# Altium integrated library TI_Logic_Specialty_Logic.IntLib: 2504 symbols (part 23 of 81)
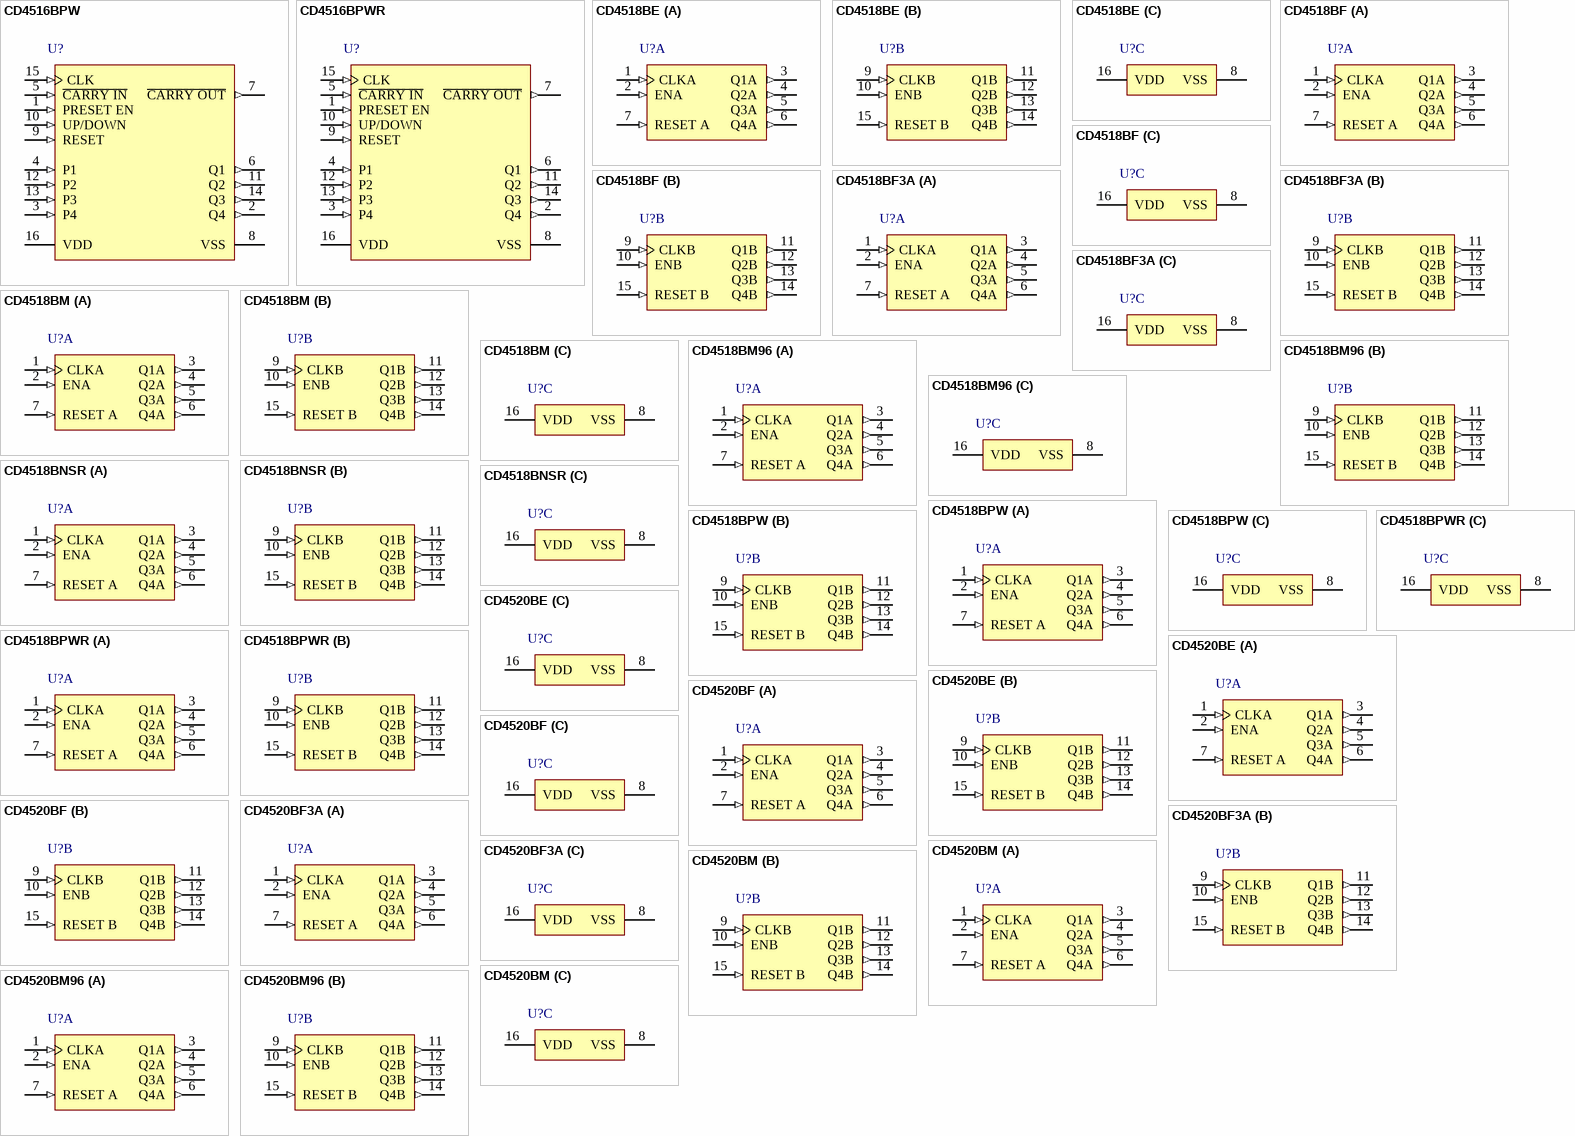
[diagram p126: symbols CD4516BPW to CD4520BM96]

## CD4518BM96
designator U?
CMOS Dual BCD Up-Counter, D0016A, LARGE T&R; Generic Part Number: CD4518B; Manufacturer: Texas Instruments; PartNumber: CD4518BM96; VCC(Max)(V): 18; VCC(Min)(V): 3; Inputs: 1; ICC @ Nom Voltage(Max)(mA): 0.03; Bits(#): 4; F @ Nom Voltage(Max)(Mhz): 8; Rating: Catalog; Technology Family: CD4000; Voltage(Nom)(V): 5,10,15; Schmitt Trigger: No; Output Drive (IOL/IOH)(Max)(mA): 1.5/-1.5; tpd @ Nom Voltage(Max)(ns): 230; DatasheetVersion: SCHS076D; PackageReference: D0016A; Supplier 1: Mouser; Supplier Part Number 1: 595-CD4518BM96; Supplier 2: Digi-Key; Supplier Part Number 2: 296-37330-2-ND; Supplier 3: Digi-Key; Supplier Part Number 3: 296-37330-1-ND; Supplier 4: Digi-Key; Supplier Part Number 4: 296-37330-6-ND; Output Type: CMOS; Function: Counter; Input Type: CMOS; Operating Temperature Range(C): -55 to 125; Type: Other; Code_JEDEC: MS-012 variation AC; ComponentLink1Description: Manufacturer URL; ComponentLink1URL: http://www.ti.com/; ComponentLink2Description: Datasheet; ComponentLink2URL: http://www.ti.com/lit/ds/symlink/cd4518b.pdf; ComponentLink3Description: Package Specification; ComponentLink3URL: http://www.ti.com/lit/ml/mpds178g/mpds178g.pdf
footprint D0016A_N (SOIC, 16-Leads, Body 10x4mm, Pitch 1.27mm, IPC Medium Density)
footprint D0016A_M (SOIC, 16-Leads, Body 10x4mm, Pitch 1.27mm, IPC Low Density)
footprint D0016A_L (SOIC, 16-Leads, Body 10x4mm, Pitch 1.27mm, IPC High Density)
part A pins: 1 CLKA (in), 2 ENA (in), 3 Q1A (out), 4 Q2A (out), 5 Q3A (out), 6 Q4A (out), 7 RESET A (in)
part B pins: 9 CLKB (in), 10 ENB (in), 11 Q1B (out), 12 Q2B (out), 13 Q3B (out), 14 Q4B (out), 15 RESET B (in)
part C pins: 8 VSS (power), 16 VDD (power)

## CD4518BNSR
designator U?
CMOS Dual BCD Up-Counter, NS0016A, LARGE T&R; Generic Part Number: CD4518B; Manufacturer: Texas Instruments; PartNumber: CD4518BNSR; VCC(Max)(V): 18; VCC(Min)(V): 3; Inputs: 1; ICC @ Nom Voltage(Max)(mA): 0.03; Bits(#): 4; F @ Nom Voltage(Max)(Mhz): 8; Rating: Catalog; Technology Family: CD4000; Voltage(Nom)(V): 5,10,15; Schmitt Trigger: No; Output Drive (IOL/IOH)(Max)(mA): 1.5/-1.5; tpd @ Nom Voltage(Max)(ns): 230; DatasheetVersion: SCHS076D; PackageReference: NS0016A; Supplier 1: Mouser; Supplier Part Number 1: 595-CD4518BNSR; Supplier 2: Digi-Key; Supplier Part Number 2: 296-14157-2-ND; Supplier 3: Digi-Key; Supplier Part Number 3: 296-14157-1-ND; Supplier 4: Digi-Key; Supplier Part Number 4: 296-14157-6-ND; Output Type: CMOS; Function: Counter; Input Type: CMOS; Operating Temperature Range(C): -55 to 125; Type: Other; ComponentLink1Description: Manufacturer URL; ComponentLink1URL: http://www.ti.com/; ComponentLink2Description: Datasheet; ComponentLink2URL: http://www.ti.com/lit/ds/symlink/cd4518b.pdf; ComponentLink3Description: Package Specification; ComponentLink3URL: http://www.ti.com/lit/ml/msop002a/msop002a.pdf
footprint NS0016A_N (SOIC,16-Leads,Body 10.5x5.6mm,Pitch 1.27mm,IPC Medium Density)
footprint NS0016A_M (SOIC,16-Leads,Body 10.5x5.6mm,Pitch 1.27mm,IPC Low Density)
footprint NS0016A_L (SOIC,16-Leads,Body 10.5x5.6mm,Pitch 1.27mm,IPC High Density)
part A pins: 1 CLKA (in), 2 ENA (in), 3 Q1A (out), 4 Q2A (out), 5 Q3A (out), 6 Q4A (out), 7 RESET A (in)
part B pins: 9 CLKB (in), 10 ENB (in), 11 Q1B (out), 12 Q2B (out), 13 Q3B (out), 14 Q4B (out), 15 RESET B (in)
part C pins: 8 VSS (power), 16 VDD (power)

## CD4518BPW
designator U?
CMOS Dual BCD Up-Counter, PW0016A, TUBE; Generic Part Number: CD4518B; Manufacturer: Texas Instruments; PartNumber: CD4518BPW; VCC(Max)(V): 18; VCC(Min)(V): 3; Inputs: 1; ICC @ Nom Voltage(Max)(mA): 0.03; Bits(#): 4; F @ Nom Voltage(Max)(Mhz): 8; Rating: Catalog; Technology Family: CD4000; Voltage(Nom)(V): 5,10,15; Schmitt Trigger: No; Output Drive (IOL/IOH)(Max)(mA): 1.5/-1.5; tpd @ Nom Voltage(Max)(ns): 230; DatasheetVersion: SCHS076D; PackageReference: PW0016A; Supplier 1: Mouser; Supplier Part Number 1: 595-CD4518BPW; Supplier 2: Digi-Key; Supplier Part Number 2: 296-32926-5-ND; Output Type: CMOS; Function: Counter; Input Type: CMOS; Operating Temperature Range(C): -55 to 125; Type: Other; Code_JEDEC: MO-153; ComponentLink1Description: Manufacturer URL; ComponentLink1URL: http://www.ti.com/; ComponentLink2Description: Datasheet; ComponentLink2URL: http://www.ti.com/lit/ds/symlink/cd4518b.pdf; ComponentLink3Description: Package Specification; ComponentLink3URL: http://www.ti.com/lit/ml/mpds361/mpds361.pdf
footprint PW0016A_N (SOP, 16-Leads, Body 5.1x4.5mm, Pitch 0.65mm, IPC Medium Density)
footprint PW0016A_M (SOP, 16-Leads, Body 5.1x4.5mm, Pitch 0.65mm, IPC Low Density)
footprint PW0016A_L (SOP, 16-Leads, Body 5.1x4.5mm, Pitch 0.65mm, IPC High Density)
part A pins: 1 CLKA (in), 2 ENA (in), 3 Q1A (out), 4 Q2A (out), 5 Q3A (out), 6 Q4A (out), 7 RESET A (in)
part B pins: 9 CLKB (in), 10 ENB (in), 11 Q1B (out), 12 Q2B (out), 13 Q3B (out), 14 Q4B (out), 15 RESET B (in)
part C pins: 8 VSS (power), 16 VDD (power)

## CD4518BPWR
designator U?
CMOS Dual BCD Up-Counter, PW0016A, LARGE T&R; Generic Part Number: CD4518B; Manufacturer: Texas Instruments; PartNumber: CD4518BPWR; VCC(Max)(V): 18; VCC(Min)(V): 3; Inputs: 1; ICC @ Nom Voltage(Max)(mA): 0.03; Bits(#): 4; F @ Nom Voltage(Max)(Mhz): 8; Rating: Catalog; Technology Family: CD4000; Voltage(Nom)(V): 5,10,15; Schmitt Trigger: No; Output Drive (IOL/IOH)(Max)(mA): 1.5/-1.5; tpd @ Nom Voltage(Max)(ns): 230; DatasheetVersion: SCHS076D; PackageReference: PW0016A; Supplier 1: Mouser; Supplier Part Number 1: 595-CD4518BPWR; Supplier 2: Digi-Key; Supplier Part Number 2: 296-28454-2-ND; Supplier 3: Digi-Key; Supplier Part Number 3: 296-28454-1-ND; Supplier 4: Digi-Key; Supplier Part Number 4: 296-28454-6-ND; Output Type: CMOS; Function: Counter; Input Type: CMOS; Operating Temperature Range(C): -55 to 125; Type: Other; Code_JEDEC: MO-153; ComponentLink1Description: Manufacturer URL; ComponentLink1URL: http://www.ti.com/; ComponentLink2Description: Datasheet; ComponentLink2URL: http://www.ti.com/lit/ds/symlink/cd4518b.pdf; ComponentLink3Description: Package Specification; ComponentLink3URL: http://www.ti.com/lit/ml/mpds361/mpds361.pdf
footprint PW0016A_N (SOP, 16-Leads, Body 5.1x4.5mm, Pitch 0.65mm, IPC Medium Density)
footprint PW0016A_M (SOP, 16-Leads, Body 5.1x4.5mm, Pitch 0.65mm, IPC Low Density)
footprint PW0016A_L (SOP, 16-Leads, Body 5.1x4.5mm, Pitch 0.65mm, IPC High Density)
part A pins: 1 CLKA (in), 2 ENA (in), 3 Q1A (out), 4 Q2A (out), 5 Q3A (out), 6 Q4A (out), 7 RESET A (in)
part B pins: 9 CLKB (in), 10 ENB (in), 11 Q1B (out), 12 Q2B (out), 13 Q3B (out), 14 Q4B (out), 15 RESET B (in)
part C pins: 8 VSS (power), 16 VDD (power)

## CD4520BE
designator U?
CMOS Dual Binary Up-Counter, N0016A, TUBE; Generic Part Number: CD4520B; Manufacturer: Texas Instruments; PartNumber: CD4520BE; VCC(Max)(V): 18; VCC(Min)(V): 3; Inputs: 1; ICC @ Nom Voltage(Max)(mA): 0.03; Bits(#): 4; F @ Nom Voltage(Max)(Mhz): 8; Rating: Catalog; Technology Family: CD4000; Voltage(Nom)(V): 5,10,15; Schmitt Trigger: No; Output Drive (IOL/IOH)(Max)(mA): 1.5/-1.5; tpd @ Nom Voltage(Max)(ns): 230; DatasheetVersion: SCHS076D; PackageReference: N0016A; Supplier 1: Mouser; Supplier Part Number 1: 595-CD4520BE; Supplier 2: Digi-Key; Supplier Part Number 2: 296-2077-5-ND; Output Type: CMOS; Function: Counter; Input Type: CMOS; Operating Temperature Range(C): -55 to 125; Type: Binary; Code_JEDEC: MS-001; ComponentLink1Description: Manufacturer URL; ComponentLink1URL: http://www.ti.com/; ComponentLink2Description: Datasheet; ComponentLink2URL: http://www.ti.com/lit/ds/symlink/cd4520b.pdf; ComponentLink3Description: Package Specification; ComponentLink3URL: http://www.ti.com/lit/ml/mpdi002c/mpdi002c.pdf
footprint N0016A (DIP, 16-Leads, Body 19.7x6.6mm, Pitch 2.54mm)
part A pins: 1 CLKA (in), 2 ENA (in), 3 Q1A (out), 4 Q2A (out), 5 Q3A (out), 6 Q4A (out), 7 RESET A (in)
part B pins: 9 CLKB (in), 10 ENB (in), 11 Q1B (out), 12 Q2B (out), 13 Q3B (out), 14 Q4B (out), 15 RESET B (in)
part C pins: 8 VSS (power), 16 VDD (power)

## CD4520BF
designator U?
CMOS Dual Binary Up-Counter, J0016A, TUBE; Generic Part Number: CD4520B-MIL; Manufacturer: Texas Instruments; PartNumber: CD4520BF; VCC(Max)(V): 18; VCC(Min)(V): 3; Inputs: 1; ICC @ Nom Voltage(Max)(mA): 0.03; Bits(#): 4; F @ Nom Voltage(Max)(Mhz): 8; Rating: Military; Technology Family: CD4000; Voltage(Nom)(V): 10; Schmitt Trigger: No; Output Drive (IOL/IOH)(Max)(mA): 1.5/-1.5; tpd @ Nom Voltage(Max)(ns): 230; DatasheetVersion: SCHS076D; PackageReference: J0016A; Output Type: CMOS; Function: Counter; Input Type: CMOS; Operating Temperature Range(C): -55 to 125; Type: Binary; ComponentLink1Description: Manufacturer URL; ComponentLink1URL: http://www.ti.com/; ComponentLink2Description: Datasheet; ComponentLink2URL: http://www.ti.com/lit/ds/symlink/cd4520b-mil.pdf; ComponentLink3Description: Package Specification; ComponentLink3URL: http://www.ti.com/lit/ml/mcer002d/mcer002d.pdf
footprint J0016A (DIP, 16-Leads, Body 21.35x7.2mm, Pitch 2.54mm)
part A pins: 1 CLKA (in), 2 ENA (in), 3 Q1A (out), 4 Q2A (out), 5 Q3A (out), 6 Q4A (out), 7 RESET A (in)
part B pins: 9 CLKB (in), 10 ENB (in), 11 Q1B (out), 12 Q2B (out), 13 Q3B (out), 14 Q4B (out), 15 RESET B (in)
part C pins: 8 VSS (power), 16 VDD (power)

## CD4520BF3A
designator U?
CMOS Dual Binary Up-Counter, J0016A, TUBE; Generic Part Number: CD4520B-MIL; Manufacturer: Texas Instruments; PartNumber: CD4520BF3A; VCC(Max)(V): 18; VCC(Min)(V): 3; Inputs: 1; ICC @ Nom Voltage(Max)(mA): 0.03; Bits(#): 4; F @ Nom Voltage(Max)(Mhz): 8; Rating: Military; Technology Family: CD4000; Voltage(Nom)(V): 10; Schmitt Trigger: No; Output Drive (IOL/IOH)(Max)(mA): 1.5/-1.5; tpd @ Nom Voltage(Max)(ns): 230; DatasheetVersion: SCHS076D; PackageReference: J0016A; Output Type: CMOS; Function: Counter; Input Type: CMOS; Operating Temperature Range(C): -55 to 125; Type: Binary; ComponentLink1Description: Manufacturer URL; ComponentLink1URL: http://www.ti.com/; ComponentLink2Description: Datasheet; ComponentLink2URL: http://www.ti.com/lit/ds/symlink/cd4520b-mil.pdf; ComponentLink3Description: Package Specification; ComponentLink3URL: http://www.ti.com/lit/ml/mcer002d/mcer002d.pdf
footprint J0016A (DIP, 16-Leads, Body 21.35x7.2mm, Pitch 2.54mm)
part A pins: 1 CLKA (in), 2 ENA (in), 3 Q1A (out), 4 Q2A (out), 5 Q3A (out), 6 Q4A (out), 7 RESET A (in)
part B pins: 9 CLKB (in), 10 ENB (in), 11 Q1B (out), 12 Q2B (out), 13 Q3B (out), 14 Q4B (out), 15 RESET B (in)
part C pins: 8 VSS (power), 16 VDD (power)

## CD4520BM
designator U?
CMOS Dual Binary Up-Counter, D0016A, TUBE; Generic Part Number: CD4520B; Manufacturer: Texas Instruments; PartNumber: CD4520BM; VCC(Max)(V): 18; VCC(Min)(V): 3; Inputs: 1; ICC @ Nom Voltage(Max)(mA): 0.03; Bits(#): 4; F @ Nom Voltage(Max)(Mhz): 8; Rating: Catalog; Technology Family: CD4000; Voltage(Nom)(V): 5,10,15; Schmitt Trigger: No; Output Drive (IOL/IOH)(Max)(mA): 1.5/-1.5; tpd @ Nom Voltage(Max)(ns): 230; DatasheetVersion: SCHS076D; PackageReference: D0016A; Supplier 1: Mouser; Supplier Part Number 1: 595-CD4520BM; Supplier 2: Digi-Key; Supplier Part Number 2: 296-32927-5-ND; Output Type: CMOS; Function: Counter; Input Type: CMOS; Operating Temperature Range(C): -55 to 125; Type: Binary; Code_JEDEC: MS-012 variation AC; ComponentLink1Description: Manufacturer URL; ComponentLink1URL: http://www.ti.com/; ComponentLink2Description: Datasheet; ComponentLink2URL: http://www.ti.com/lit/ds/symlink/cd4520b.pdf; ComponentLink3Description: Package Specification; ComponentLink3URL: http://www.ti.com/lit/ml/mpds178g/mpds178g.pdf
footprint D0016A_N (SOIC, 16-Leads, Body 10x4mm, Pitch 1.27mm, IPC Medium Density)
footprint D0016A_M (SOIC, 16-Leads, Body 10x4mm, Pitch 1.27mm, IPC Low Density)
footprint D0016A_L (SOIC, 16-Leads, Body 10x4mm, Pitch 1.27mm, IPC High Density)
part A pins: 1 CLKA (in), 2 ENA (in), 3 Q1A (out), 4 Q2A (out), 5 Q3A (out), 6 Q4A (out), 7 RESET A (in)
part B pins: 9 CLKB (in), 10 ENB (in), 11 Q1B (out), 12 Q2B (out), 13 Q3B (out), 14 Q4B (out), 15 RESET B (in)
part C pins: 8 VSS (power), 16 VDD (power)

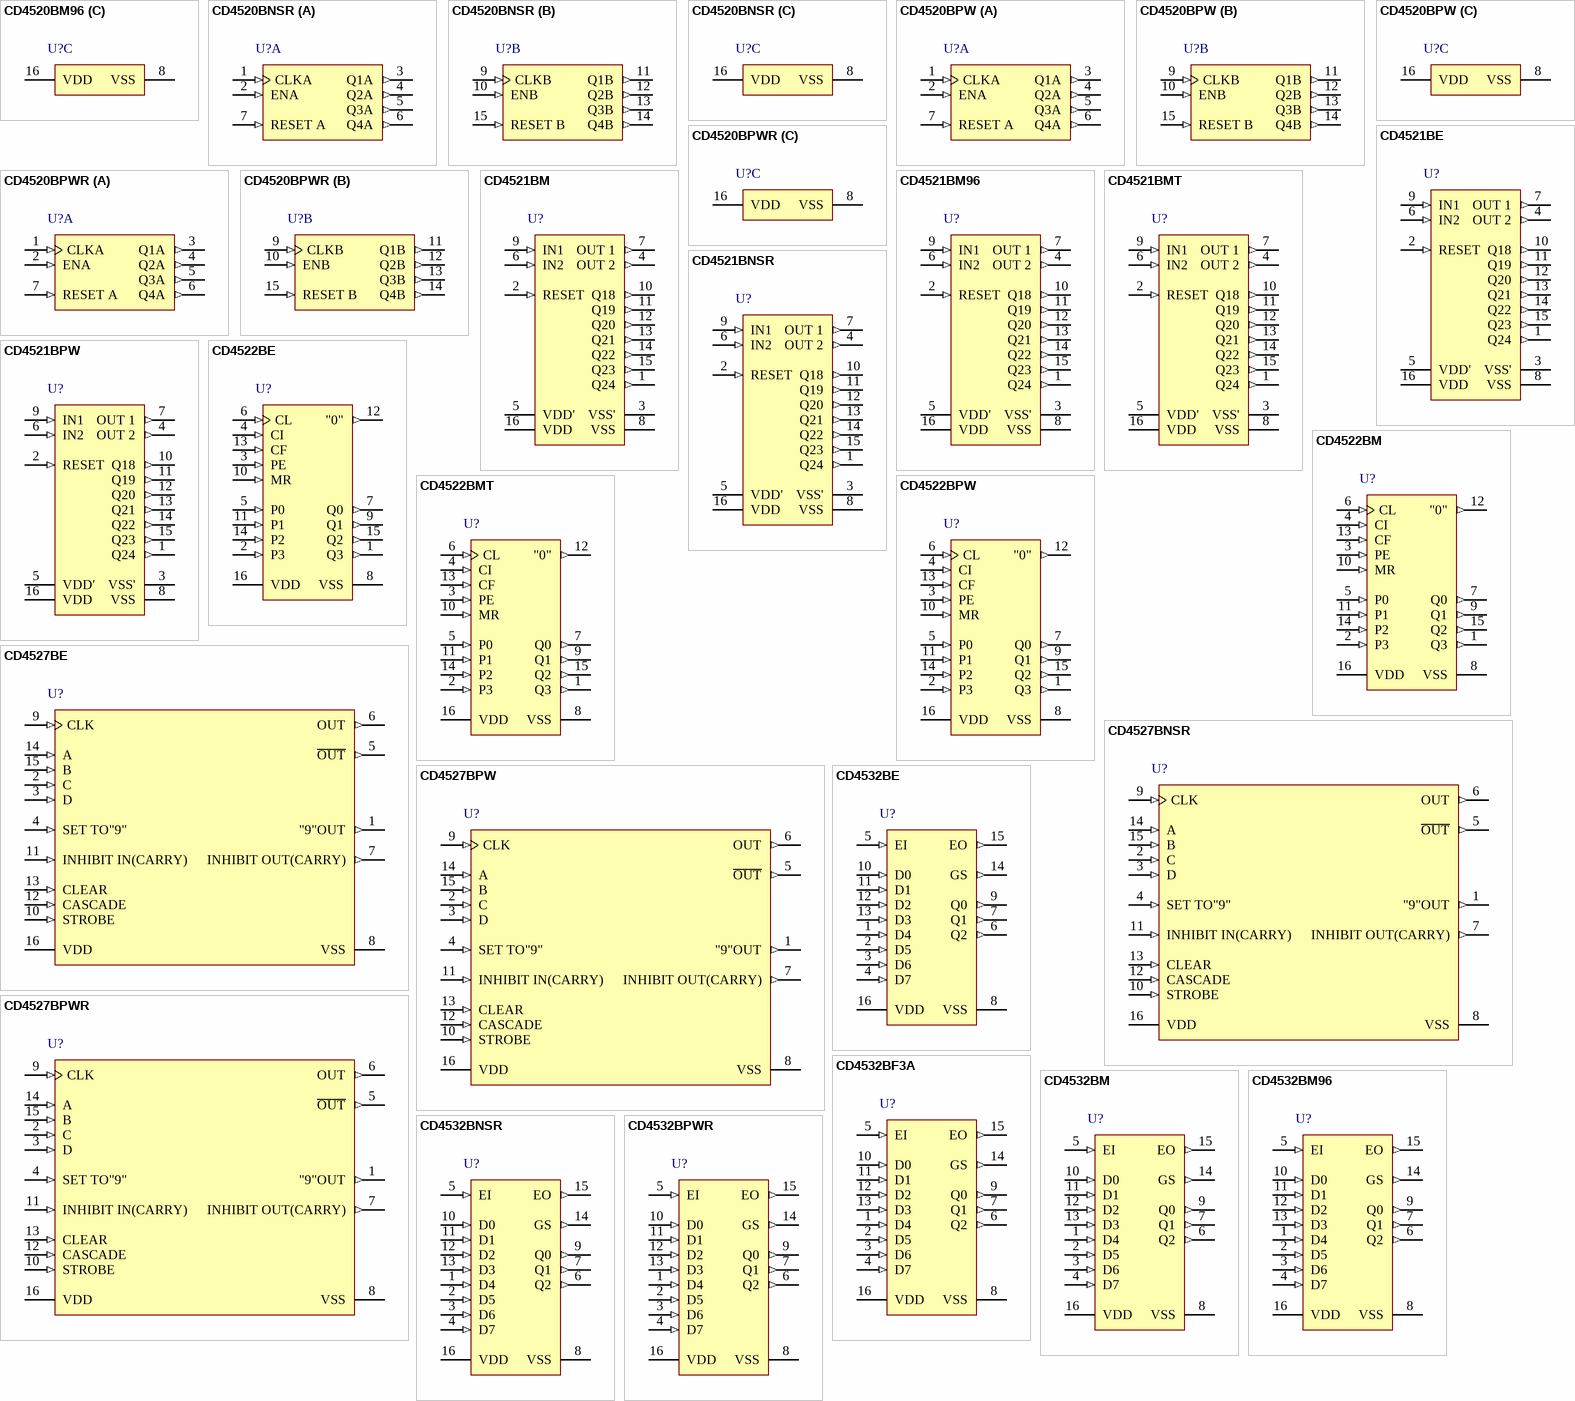
[diagram p30: symbols CD4520BM96 to CD4532BPWR]

## CD4520BM96
designator U?
CMOS Dual Binary Up-Counter, D0016A, LARGE T&R; Generic Part Number: CD4520B; Manufacturer: Texas Instruments; PartNumber: CD4520BM96; VCC(Max)(V): 18; VCC(Min)(V): 3; Inputs: 1; ICC @ Nom Voltage(Max)(mA): 0.03; Bits(#): 4; F @ Nom Voltage(Max)(Mhz): 8; Rating: Catalog; Technology Family: CD4000; Voltage(Nom)(V): 5,10,15; Schmitt Trigger: No; Output Drive (IOL/IOH)(Max)(mA): 1.5/-1.5; tpd @ Nom Voltage(Max)(ns): 230; DatasheetVersion: SCHS076D; PackageReference: D0016A; Supplier 1: Mouser; Supplier Part Number 1: 595-CD4520BM96; Supplier 2: Digi-Key; Supplier Part Number 2: 296-41222-2-ND; Supplier 3: Digi-Key; Supplier Part Number 3: 296-41222-1-ND; Supplier 4: Digi-Key; Supplier Part Number 4: 296-41222-6-ND; Output Type: CMOS; Function: Counter; Input Type: CMOS; Operating Temperature Range(C): -55 to 125; Type: Binary; Code_JEDEC: MS-012 variation AC; ComponentLink1Description: Manufacturer URL; ComponentLink1URL: http://www.ti.com/; ComponentLink2Description: Datasheet; ComponentLink2URL: http://www.ti.com/lit/ds/symlink/cd4520b.pdf; ComponentLink3Description: Package Specification; ComponentLink3URL: http://www.ti.com/lit/ml/mpds178g/mpds178g.pdf
footprint D0016A_N (SOIC, 16-Leads, Body 10x4mm, Pitch 1.27mm, IPC Medium Density)
footprint D0016A_M (SOIC, 16-Leads, Body 10x4mm, Pitch 1.27mm, IPC Low Density)
footprint D0016A_L (SOIC, 16-Leads, Body 10x4mm, Pitch 1.27mm, IPC High Density)
part A pins: 1 CLKA (in), 2 ENA (in), 3 Q1A (out), 4 Q2A (out), 5 Q3A (out), 6 Q4A (out), 7 RESET A (in)
part B pins: 9 CLKB (in), 10 ENB (in), 11 Q1B (out), 12 Q2B (out), 13 Q3B (out), 14 Q4B (out), 15 RESET B (in)
part C pins: 8 VSS (power), 16 VDD (power)

## CD4520BNSR
designator U?
CMOS Dual Binary Up-Counter, NS0016A, LARGE T&R; Generic Part Number: CD4520B; Manufacturer: Texas Instruments; PartNumber: CD4520BNSR; VCC(Max)(V): 18; VCC(Min)(V): 3; Inputs: 1; ICC @ Nom Voltage(Max)(mA): 0.03; Bits(#): 4; F @ Nom Voltage(Max)(Mhz): 8; Rating: Catalog; Technology Family: CD4000; Voltage(Nom)(V): 5,10,15; Schmitt Trigger: No; Output Drive (IOL/IOH)(Max)(mA): 1.5/-1.5; tpd @ Nom Voltage(Max)(ns): 230; DatasheetVersion: SCHS076D; PackageReference: NS0016A; Supplier 1: Mouser; Supplier Part Number 1: 595-CD4520BNSR; Supplier 2: Digi-Key; Supplier Part Number 2: 296-29113-2-ND; Supplier 3: Digi-Key; Supplier Part Number 3: 296-29113-1-ND; Supplier 4: Digi-Key; Supplier Part Number 4: 296-29113-6-ND; Output Type: CMOS; Function: Counter; Input Type: CMOS; Operating Temperature Range(C): -55 to 125; Type: Binary; ComponentLink1Description: Manufacturer URL; ComponentLink1URL: http://www.ti.com/; ComponentLink2Description: Datasheet; ComponentLink2URL: http://www.ti.com/lit/ds/symlink/cd4520b.pdf; ComponentLink3Description: Package Specification; ComponentLink3URL: http://www.ti.com/lit/ml/msop002a/msop002a.pdf
footprint NS0016A_N (SOIC,16-Leads,Body 10.5x5.6mm,Pitch 1.27mm,IPC Medium Density)
footprint NS0016A_M (SOIC,16-Leads,Body 10.5x5.6mm,Pitch 1.27mm,IPC Low Density)
footprint NS0016A_L (SOIC,16-Leads,Body 10.5x5.6mm,Pitch 1.27mm,IPC High Density)
part A pins: 1 CLKA (in), 2 ENA (in), 3 Q1A (out), 4 Q2A (out), 5 Q3A (out), 6 Q4A (out), 7 RESET A (in)
part B pins: 9 CLKB (in), 10 ENB (in), 11 Q1B (out), 12 Q2B (out), 13 Q3B (out), 14 Q4B (out), 15 RESET B (in)
part C pins: 8 VSS (power), 16 VDD (power)

## CD4520BPW
designator U?
CMOS Dual Binary Up-Counter, PW0016A, TUBE; Generic Part Number: CD4520B; Manufacturer: Texas Instruments; PartNumber: CD4520BPW; VCC(Max)(V): 18; VCC(Min)(V): 3; Inputs: 1; ICC @ Nom Voltage(Max)(mA): 0.03; Bits(#): 4; F @ Nom Voltage(Max)(Mhz): 8; Rating: Catalog; Technology Family: CD4000; Voltage(Nom)(V): 5,10,15; Schmitt Trigger: No; Output Drive (IOL/IOH)(Max)(mA): 1.5/-1.5; tpd @ Nom Voltage(Max)(ns): 230; DatasheetVersion: SCHS076D; PackageReference: PW0016A; Supplier 1: Mouser; Supplier Part Number 1: 595-CD4520BPW; Supplier 2: Digi-Key; Supplier Part Number 2: 296-32928-5-ND; Output Type: CMOS; Function: Counter; Input Type: CMOS; Operating Temperature Range(C): -55 to 125; Type: Binary; Code_JEDEC: MO-153; ComponentLink1Description: Manufacturer URL; ComponentLink1URL: http://www.ti.com/; ComponentLink2Description: Datasheet; ComponentLink2URL: http://www.ti.com/lit/ds/symlink/cd4520b.pdf; ComponentLink3Description: Package Specification; ComponentLink3URL: http://www.ti.com/lit/ml/mpds361/mpds361.pdf
footprint PW0016A_N (SOP, 16-Leads, Body 5.1x4.5mm, Pitch 0.65mm, IPC Medium Density)
footprint PW0016A_M (SOP, 16-Leads, Body 5.1x4.5mm, Pitch 0.65mm, IPC Low Density)
footprint PW0016A_L (SOP, 16-Leads, Body 5.1x4.5mm, Pitch 0.65mm, IPC High Density)
part A pins: 1 CLKA (in), 2 ENA (in), 3 Q1A (out), 4 Q2A (out), 5 Q3A (out), 6 Q4A (out), 7 RESET A (in)
part B pins: 9 CLKB (in), 10 ENB (in), 11 Q1B (out), 12 Q2B (out), 13 Q3B (out), 14 Q4B (out), 15 RESET B (in)
part C pins: 8 VSS (power), 16 VDD (power)

## CD4520BPWR
designator U?
CMOS Dual Binary Up-Counter, PW0016A, LARGE T&R; Generic Part Number: CD4520B; Manufacturer: Texas Instruments; PartNumber: CD4520BPWR; VCC(Max)(V): 18; VCC(Min)(V): 3; Inputs: 1; ICC @ Nom Voltage(Max)(mA): 0.03; Bits(#): 4; F @ Nom Voltage(Max)(Mhz): 8; Rating: Catalog; Technology Family: CD4000; Voltage(Nom)(V): 5,10,15; Schmitt Trigger: No; Output Drive (IOL/IOH)(Max)(mA): 1.5/-1.5; tpd @ Nom Voltage(Max)(ns): 230; DatasheetVersion: SCHS076D; PackageReference: PW0016A; Supplier 1: Mouser; Supplier Part Number 1: 595-CD4520BPWR; Supplier 2: Digi-Key; Supplier Part Number 2: 296-31532-2-ND; Supplier 3: Digi-Key; Supplier Part Number 3: 296-31532-1-ND; Supplier 4: Digi-Key; Supplier Part Number 4: 296-31532-6-ND; Output Type: CMOS; Function: Counter; Input Type: CMOS; Operating Temperature Range(C): -55 to 125; Type: Binary; Code_JEDEC: MO-153; ComponentLink1Description: Manufacturer URL; ComponentLink1URL: http://www.ti.com/; ComponentLink2Description: Datasheet; ComponentLink2URL: http://www.ti.com/lit/ds/symlink/cd4520b.pdf; ComponentLink3Description: Package Specification; ComponentLink3URL: http://www.ti.com/lit/ml/mpds361/mpds361.pdf
footprint PW0016A_N (SOP, 16-Leads, Body 5.1x4.5mm, Pitch 0.65mm, IPC Medium Density)
footprint PW0016A_M (SOP, 16-Leads, Body 5.1x4.5mm, Pitch 0.65mm, IPC Low Density)
footprint PW0016A_L (SOP, 16-Leads, Body 5.1x4.5mm, Pitch 0.65mm, IPC High Density)
part A pins: 1 CLKA (in), 2 ENA (in), 3 Q1A (out), 4 Q2A (out), 5 Q3A (out), 6 Q4A (out), 7 RESET A (in)
part B pins: 9 CLKB (in), 10 ENB (in), 11 Q1B (out), 12 Q2B (out), 13 Q3B (out), 14 Q4B (out), 15 RESET B (in)
part C pins: 8 VSS (power), 16 VDD (power)

## CD4521BE
designator U?
CMOS 24-Stage Frequency Divider, N0016A, TUBE; Generic Part Number: CD4521B; Manufacturer: Texas Instruments; PartNumber: CD4521BE; VCC(Max)(V): 18; VCC(Min)(V): 3; ICC @ Nom Voltage(Max)(mA): 0.3; Bits(#): 7; F @ Nom Voltage(Max)(Mhz): 8; Rating: Catalog; Technology Family: CD4000; Voltage(Nom)(V): 10; Schmitt Trigger: No; Output Drive (IOL/IOH)(Max)(mA): 4/-4; tpd @ Nom Voltage(Max)(ns): 4500; DatasheetVersion: SCHS078C; PackageReference: N0016A; Supplier 1: Mouser; Supplier Part Number 1: 595-CD4521BE; Supplier 2: Digi-Key; Supplier Part Number 2: 296-14158-5-ND; Output Type: CMOS; Input Type: CMOS; Operating Temperature Range(C): -55 to 125; ComponentLink1Description: Manufacturer URL; ComponentLink1URL: http://www.ti.com/; ComponentLink2Description: Datasheet; ComponentLink2URL: http://www.ti.com/lit/ds/symlink/cd4521b.pdf
footprint N0016A (DIP, 16-Leads, Body 19.7x6.6mm, Pitch 2.54mm)
pins: 1 Q24 (out), 2 RESET (in), 3 VSS' (power), 4 OUT 2 (out), 5 VDD' (power), 6 IN2 (in), 7 OUT 1 (out), 8 VSS (power), 9 IN1 (in), 10 Q18 (out), 11 Q19 (out), 12 Q20 (out), 13 Q21 (out), 14 Q22 (out), 15 Q23 (out), 16 VDD (power)

## CD4521BM
designator U?
CMOS 24-Stage Frequency Divider, D0016A, TUBE; Generic Part Number: CD4521B; Manufacturer: Texas Instruments; PartNumber: CD4521BM; VCC(Max)(V): 18; VCC(Min)(V): 3; ICC @ Nom Voltage(Max)(mA): 0.3; Bits(#): 7; F @ Nom Voltage(Max)(Mhz): 8; Rating: Catalog; Technology Family: CD4000; Voltage(Nom)(V): 10; Schmitt Trigger: No; Output Drive (IOL/IOH)(Max)(mA): 4/-4; tpd @ Nom Voltage(Max)(ns): 4500; DatasheetVersion: SCHS078C; PackageReference: D0016A; Supplier 1: Mouser; Supplier Part Number 1: 595-CD4521BM; Supplier 2: Digi-Key; Supplier Part Number 2: 296-32929-5-ND; Output Type: CMOS; Input Type: CMOS; Operating Temperature Range(C): -55 to 125; ComponentLink1Description: Manufacturer URL; ComponentLink1URL: http://www.ti.com/; ComponentLink2Description: Datasheet; ComponentLink2URL: http://www.ti.com/lit/ds/symlink/cd4521b.pdf
footprint D0016A_N (SOIC, 16-Leads, Body 10x4mm, Pitch 1.27mm, IPC Medium Density)
footprint D0016A_M (SOIC, 16-Leads, Body 10x4mm, Pitch 1.27mm, IPC Low Density)
footprint D0016A_L (SOIC, 16-Leads, Body 10x4mm, Pitch 1.27mm, IPC High Density)
pins: 1 Q24 (out), 2 RESET (in), 3 VSS' (power), 4 OUT 2 (out), 5 VDD' (power), 6 IN2 (in), 7 OUT 1 (out), 8 VSS (power), 9 IN1 (in), 10 Q18 (out), 11 Q19 (out), 12 Q20 (out), 13 Q21 (out), 14 Q22 (out), 15 Q23 (out), 16 VDD (power)

## CD4521BM96
designator U?
CMOS 24-Stage Frequency Divider, D0016A, LARGE T&R; Generic Part Number: CD4521B; Manufacturer: Texas Instruments; PartNumber: CD4521BM96; VCC(Max)(V): 18; VCC(Min)(V): 3; ICC @ Nom Voltage(Max)(mA): 0.3; Bits(#): 7; F @ Nom Voltage(Max)(Mhz): 8; Rating: Catalog; Technology Family: CD4000; Voltage(Nom)(V): 10; Schmitt Trigger: No; Output Drive (IOL/IOH)(Max)(mA): 4/-4; tpd @ Nom Voltage(Max)(ns): 4500; DatasheetVersion: SCHS078C; PackageReference: D0016A; Supplier 1: Mouser; Supplier Part Number 1: 595-CD4521BM96; Supplier 2: Digi-Key; Supplier Part Number 2: 296-31533-2-ND; Supplier 3: Digi-Key; Supplier Part Number 3: 296-31533-1-ND; Supplier 4: Digi-Key; Supplier Part Number 4: 296-31533-6-ND; Output Type: CMOS; Input Type: CMOS; Operating Temperature Range(C): -55 to 125; ComponentLink1Description: Manufacturer URL; ComponentLink1URL: http://www.ti.com/; ComponentLink2Description: Datasheet; ComponentLink2URL: http://www.ti.com/lit/ds/symlink/cd4521b.pdf
footprint D0016A_N (SOIC, 16-Leads, Body 10x4mm, Pitch 1.27mm, IPC Medium Density)
footprint D0016A_M (SOIC, 16-Leads, Body 10x4mm, Pitch 1.27mm, IPC Low Density)
footprint D0016A_L (SOIC, 16-Leads, Body 10x4mm, Pitch 1.27mm, IPC High Density)
pins: 1 Q24 (out), 2 RESET (in), 3 VSS' (power), 4 OUT 2 (out), 5 VDD' (power), 6 IN2 (in), 7 OUT 1 (out), 8 VSS (power), 9 IN1 (in), 10 Q18 (out), 11 Q19 (out), 12 Q20 (out), 13 Q21 (out), 14 Q22 (out), 15 Q23 (out), 16 VDD (power)

## CD4521BMT
designator U?
CMOS 24-Stage Frequency Divider, D0016A, SMALL T&R; Generic Part Number: CD4521B; Manufacturer: Texas Instruments; PartNumber: CD4521BMT; VCC(Max)(V): 18; VCC(Min)(V): 3; ICC @ Nom Voltage(Max)(mA): 0.3; Bits(#): 7; F @ Nom Voltage(Max)(Mhz): 8; Rating: Catalog; Technology Family: CD4000; Voltage(Nom)(V): 10; Schmitt Trigger: No; Output Drive (IOL/IOH)(Max)(mA): 4/-4; tpd @ Nom Voltage(Max)(ns): 4500; DatasheetVersion: SCHS078C; PackageReference: D0016A; Supplier 1: Mouser; Supplier Part Number 1: 595-CD4521BMT; Supplier 2: Digi-Key; Supplier Part Number 2: CD4521BMT-ND; Output Type: CMOS; Input Type: CMOS; Operating Temperature Range(C): -55 to 125; ComponentLink1Description: Manufacturer URL; ComponentLink1URL: http://www.ti.com/; ComponentLink2Description: Datasheet; ComponentLink2URL: http://www.ti.com/lit/ds/symlink/cd4521b.pdf
footprint D0016A_N (SOIC, 16-Leads, Body 10x4mm, Pitch 1.27mm, IPC Medium Density)
footprint D0016A_M (SOIC, 16-Leads, Body 10x4mm, Pitch 1.27mm, IPC Low Density)
footprint D0016A_L (SOIC, 16-Leads, Body 10x4mm, Pitch 1.27mm, IPC High Density)
pins: 1 Q24 (out), 2 RESET (in), 3 VSS' (power), 4 OUT 2 (out), 5 VDD' (power), 6 IN2 (in), 7 OUT 1 (out), 8 VSS (power), 9 IN1 (in), 10 Q18 (out), 11 Q19 (out), 12 Q20 (out), 13 Q21 (out), 14 Q22 (out), 15 Q23 (out), 16 VDD (power)

## CD4521BNSR
designator U?
CMOS 24-Stage Frequency Divider, NS0016A, LARGE T&R; Generic Part Number: CD4521B; Manufacturer: Texas Instruments; PartNumber: CD4521BNSR; VCC(Max)(V): 18; VCC(Min)(V): 3; ICC @ Nom Voltage(Max)(mA): 0.3; Bits(#): 7; F @ Nom Voltage(Max)(Mhz): 8; Rating: Catalog; Technology Family: CD4000; Voltage(Nom)(V): 10; Schmitt Trigger: No; Output Drive (IOL/IOH)(Max)(mA): 4/-4; tpd @ Nom Voltage(Max)(ns): 4500; DatasheetVersion: SCHS078C; PackageReference: NS0016A; Supplier 1: Mouser; Supplier Part Number 1: 595-CD4521BNSR; Supplier 2: Digi-Key; Supplier Part Number 2: 296-31534-2-ND; Supplier 3: Digi-Key; Supplier Part Number 3: 296-31534-1-ND; Supplier 4: Digi-Key; Supplier Part Number 4: 296-31534-6-ND; Output Type: CMOS; Input Type: CMOS; Operating Temperature Range(C): -55 to 125; ComponentLink1Description: Manufacturer URL; ComponentLink1URL: http://www.ti.com/; ComponentLink2Description: Datasheet; ComponentLink2URL: http://www.ti.com/lit/ds/symlink/cd4521b.pdf
footprint NS0016A_N (SOIC,16-Leads,Body 10.5x5.6mm,Pitch 1.27mm,IPC Medium Density)
footprint NS0016A_M (SOIC,16-Leads,Body 10.5x5.6mm,Pitch 1.27mm,IPC Low Density)
footprint NS0016A_L (SOIC,16-Leads,Body 10.5x5.6mm,Pitch 1.27mm,IPC High Density)
pins: 1 Q24 (out), 2 RESET (in), 3 VSS' (power), 4 OUT 2 (out), 5 VDD' (power), 6 IN2 (in), 7 OUT 1 (out), 8 VSS (power), 9 IN1 (in), 10 Q18 (out), 11 Q19 (out), 12 Q20 (out), 13 Q21 (out), 14 Q22 (out), 15 Q23 (out), 16 VDD (power)

## CD4521BPW
designator U?
CMOS 24-Stage Frequency Divider, PW0016A, TUBE; Generic Part Number: CD4521B; Manufacturer: Texas Instruments; PartNumber: CD4521BPW; VCC(Max)(V): 18; VCC(Min)(V): 3; ICC @ Nom Voltage(Max)(mA): 0.3; Bits(#): 7; F @ Nom Voltage(Max)(Mhz): 8; Rating: Catalog; Technology Family: CD4000; Voltage(Nom)(V): 10; Schmitt Trigger: No; Output Drive (IOL/IOH)(Max)(mA): 4/-4; tpd @ Nom Voltage(Max)(ns): 4500; DatasheetVersion: SCHS078C; PackageReference: PW0016A; Supplier 1: Mouser; Supplier Part Number 1: 595-CD4521BPW; Supplier 2: Digi-Key; Supplier Part Number 2: CD4521BPW-ND; Output Type: CMOS; Input Type: CMOS; Operating Temperature Range(C): -55 to 125; ComponentLink1Description: Manufacturer URL; ComponentLink1URL: http://www.ti.com/; ComponentLink2Description: Datasheet; ComponentLink2URL: http://www.ti.com/lit/ds/symlink/cd4521b.pdf
footprint PW0016A_N (SOP, 16-Leads, Body 5.1x4.5mm, Pitch 0.65mm, IPC Medium Density)
footprint PW0016A_M (SOP, 16-Leads, Body 5.1x4.5mm, Pitch 0.65mm, IPC Low Density)
footprint PW0016A_L (SOP, 16-Leads, Body 5.1x4.5mm, Pitch 0.65mm, IPC High Density)
pins: 1 Q24 (out), 2 RESET (in), 3 VSS' (power), 4 OUT 2 (out), 5 VDD' (power), 6 IN2 (in), 7 OUT 1 (out), 8 VSS (power), 9 IN1 (in), 10 Q18 (out), 11 Q19 (out), 12 Q20 (out), 13 Q21 (out), 14 Q22 (out), 15 Q23 (out), 16 VDD (power)

## CD4522BE
designator U?
CMOS Programmable BCD Divide-By-N Counter, N0016A, TUBE; Generic Part Number: CD4522B; Manufacturer: Texas Instruments; PartNumber: CD4522BE; VCC(Max)(V): 18; VCC(Min)(V): 3; Inputs: 1; ICC @ Nom Voltage(Max)(mA): 0.03; Bits(#): 4; F @ Nom Voltage(Max)(Mhz): 8; Rating: Catalog; Technology Family: CD4000; Voltage(Nom)(V): 5,10,15; Schmitt Trigger: No; Output Drive (IOL/IOH)(Max)(mA): 1.5/-1.5; tpd @ Nom Voltage(Max)(ns): 450; DatasheetVersion: SCHS079C; PackageReference: N0016A; Supplier 1: Mouser; Supplier Part Number 1: 595-CD4522BE; Supplier 2: Digi-Key; Supplier Part Number 2: 296-3531-5-ND; Output Type: CMOS; Function: Counter; Input Type: CMOS; Operating Temperature Range(C): -55 to 125; Type: Other; Code_JEDEC: MS-001; ComponentLink1Description: Manufacturer URL; ComponentLink1URL: http://www.ti.com/; ComponentLink2Description: Datasheet; ComponentLink2URL: http://www.ti.com/lit/ds/symlink/cd4522b.pdf; ComponentLink3Description: Package Specification; ComponentLink3URL: http://www.ti.com/lit/ml/mpdi002c/mpdi002c.pdf
footprint N0016A (DIP, 16-Leads, Body 19.7x6.6mm, Pitch 2.54mm)
pins: 1 Q3 (out), 2 P3 (in), 3 PE (in), 4 CI (in), 5 P0 (in), 6 CL (in), 7 Q0 (out), 8 VSS (power), 9 Q1 (out), 10 MR (in), 11 P1 (in), 12 "0" (out), 13 CF (in), 14 P2 (in), 15 Q2 (out), 16 VDD (power)

## CD4522BM
designator U?
CMOS Programmable BCD Divide-By-N Counter, D0016A, TUBE; Generic Part Number: CD4522B; Manufacturer: Texas Instruments; PartNumber: CD4522BM; VCC(Max)(V): 18; VCC(Min)(V): 3; Inputs: 1; ICC @ Nom Voltage(Max)(mA): 0.03; Bits(#): 4; F @ Nom Voltage(Max)(Mhz): 8; Rating: Catalog; Technology Family: CD4000; Voltage(Nom)(V): 5,10,15; Schmitt Trigger: No; Output Drive (IOL/IOH)(Max)(mA): 1.5/-1.5; tpd @ Nom Voltage(Max)(ns): 450; DatasheetVersion: SCHS079C; PackageReference: D0016A; Supplier 1: Mouser; Supplier Part Number 1: 595-CD4522BM; Supplier 2: Digi-Key; Supplier Part Number 2: CD4522BM-ND; Output Type: CMOS; Function: Counter; Input Type: CMOS; Operating Temperature Range(C): -55 to 125; Type: Other; Code_JEDEC: MS-012 variation AC; ComponentLink1Description: Manufacturer URL; ComponentLink1URL: http://www.ti.com/; ComponentLink2Description: Datasheet; ComponentLink2URL: http://www.ti.com/lit/ds/symlink/cd4522b.pdf; ComponentLink3Description: Package Specification; ComponentLink3URL: http://www.ti.com/lit/ml/mpds178g/mpds178g.pdf
footprint D0016A_N (SOIC, 16-Leads, Body 10x4mm, Pitch 1.27mm, IPC Medium Density)
footprint D0016A_M (SOIC, 16-Leads, Body 10x4mm, Pitch 1.27mm, IPC Low Density)
footprint D0016A_L (SOIC, 16-Leads, Body 10x4mm, Pitch 1.27mm, IPC High Density)
pins: 1 Q3 (out), 2 P3 (in), 3 PE (in), 4 CI (in), 5 P0 (in), 6 CL (in), 7 Q0 (out), 8 VSS (power), 9 Q1 (out), 10 MR (in), 11 P1 (in), 12 "0" (out), 13 CF (in), 14 P2 (in), 15 Q2 (out), 16 VDD (power)

## CD4522BMT
designator U?
CMOS Programmable BCD Divide-By-N Counter, D0016A, SMALL T&R; Generic Part Number: CD4522B; Manufacturer: Texas Instruments; PartNumber: CD4522BMT; VCC(Max)(V): 18; VCC(Min)(V): 3; Inputs: 1; ICC @ Nom Voltage(Max)(mA): 0.03; Bits(#): 4; F @ Nom Voltage(Max)(Mhz): 8; Rating: Catalog; Technology Family: CD4000; Voltage(Nom)(V): 5,10,15; Schmitt Trigger: No; Output Drive (IOL/IOH)(Max)(mA): 1.5/-1.5; tpd @ Nom Voltage(Max)(ns): 450; DatasheetVersion: SCHS079C; PackageReference: D0016A; Supplier 1: Mouser; Supplier Part Number 1: 595-CD4522BMT; Supplier 2: Digi-Key; Supplier Part Number 2: CD4522BMT-ND; Output Type: CMOS; Function: Counter; Input Type: CMOS; Operating Temperature Range(C): -55 to 125; Type: Other; Code_JEDEC: MS-012 variation AC; ComponentLink1Description: Manufacturer URL; ComponentLink1URL: http://www.ti.com/; ComponentLink2Description: Datasheet; ComponentLink2URL: http://www.ti.com/lit/ds/symlink/cd4522b.pdf; ComponentLink3Description: Package Specification; ComponentLink3URL: http://www.ti.com/lit/ml/mpds178g/mpds178g.pdf
footprint D0016A_N (SOIC, 16-Leads, Body 10x4mm, Pitch 1.27mm, IPC Medium Density)
footprint D0016A_M (SOIC, 16-Leads, Body 10x4mm, Pitch 1.27mm, IPC Low Density)
footprint D0016A_L (SOIC, 16-Leads, Body 10x4mm, Pitch 1.27mm, IPC High Density)
pins: 1 Q3 (out), 2 P3 (in), 3 PE (in), 4 CI (in), 5 P0 (in), 6 CL (in), 7 Q0 (out), 8 VSS (power), 9 Q1 (out), 10 MR (in), 11 P1 (in), 12 "0" (out), 13 CF (in), 14 P2 (in), 15 Q2 (out), 16 VDD (power)

## CD4522BPW
designator U?
CMOS Programmable BCD Divide-By-N Counter, PW0016A, TUBE; Generic Part Number: CD4522B; Manufacturer: Texas Instruments; PartNumber: CD4522BPW; VCC(Max)(V): 18; VCC(Min)(V): 3; Inputs: 1; ICC @ Nom Voltage(Max)(mA): 0.03; Bits(#): 4; F @ Nom Voltage(Max)(Mhz): 8; Rating: Catalog; Technology Family: CD4000; Voltage(Nom)(V): 5,10,15; Schmitt Trigger: No; Output Drive (IOL/IOH)(Max)(mA): 1.5/-1.5; tpd @ Nom Voltage(Max)(ns): 450; DatasheetVersion: SCHS079C; PackageReference: PW0016A; Supplier 1: Mouser; Supplier Part Number 1: 595-CD4522BPW; Supplier 2: Digi-Key; Supplier Part Number 2: CD4522BPW-ND; Output Type: CMOS; Function: Counter; Input Type: CMOS; Operating Temperature Range(C): -55 to 125; Type: Other; Code_JEDEC: MO-153; ComponentLink1Description: Manufacturer URL; ComponentLink1URL: http://www.ti.com/; ComponentLink2Description: Datasheet; ComponentLink2URL: http://www.ti.com/lit/ds/symlink/cd4522b.pdf; ComponentLink3Description: Package Specification; ComponentLink3URL: http://www.ti.com/lit/ml/mpds361/mpds361.pdf
footprint PW0016A_N (SOP, 16-Leads, Body 5.1x4.5mm, Pitch 0.65mm, IPC Medium Density)
footprint PW0016A_M (SOP, 16-Leads, Body 5.1x4.5mm, Pitch 0.65mm, IPC Low Density)
footprint PW0016A_L (SOP, 16-Leads, Body 5.1x4.5mm, Pitch 0.65mm, IPC High Density)
pins: 1 Q3 (out), 2 P3 (in), 3 PE (in), 4 CI (in), 5 P0 (in), 6 CL (in), 7 Q0 (out), 8 VSS (power), 9 Q1 (out), 10 MR (in), 11 P1 (in), 12 "0" (out), 13 CF (in), 14 P2 (in), 15 Q2 (out), 16 VDD (power)

## CD4527BE
designator U?
CMOS BCD Rate Multiplier, N0016A, TUBE; Generic Part Number: CD4527B; Manufacturer: Texas Instruments; PartNumber: CD4527BE; VCC(Max)(V): 18; VCC(Min)(V): 3; ICC @ Nom Voltage(Max)(mA): 0.3; Bits(#): 4; F @ Nom Voltage(Max)(Mhz): 8; Rating: Catalog; Technology Family: CD4000; Voltage(Nom)(V): 10; Schmitt Trigger: No; Output Drive (IOL/IOH)(Max)(mA): 4/-4; tpd @ Nom Voltage(Max)(ns): 290; DatasheetVersion: SCHS080C; PackageReference: N0016A; Supplier 1: Mouser; Supplier Part Number 1: 595-CD4527BE; Supplier 2: Digi-Key; Supplier Part Number 2: 296-3532-5-ND; Output Type: CMOS; Input Type: CMOS; Operating Temperature Range(C): -55 to 125; ComponentLink1Description: Manufacturer URL; ComponentLink1URL: http://www.ti.com/; ComponentLink2Description: Datasheet; ComponentLink2URL: http://www.ti.com/lit/ds/symlink/cd4527b.pdf
footprint N0016A (DIP, 16-Leads, Body 19.7x6.6mm, Pitch 2.54mm)
pins: 1 "9"OUT (out), 2 C (in), 3 D (in), 4 SET TO"9" (in), 5 ~{OUT} (out), 6 OUT (out), 7 INHIBIT OUT(CARRY) (out), 8 VSS (power), 9 CLK (in), 10 STROBE (in), 11 INHIBIT IN(CARRY) (in), 12 CASCADE (in), 13 CLEAR (in), 14 A (in), 15 B (in), 16 VDD (power)

## CD4527BNSR
designator U?
CMOS BCD Rate Multiplier, NS0016A, LARGE T&R; Generic Part Number: CD4527B; Manufacturer: Texas Instruments; PartNumber: CD4527BNSR; VCC(Max)(V): 18; VCC(Min)(V): 3; ICC @ Nom Voltage(Max)(mA): 0.3; Bits(#): 4; F @ Nom Voltage(Max)(Mhz): 8; Rating: Catalog; Technology Family: CD4000; Voltage(Nom)(V): 10; Schmitt Trigger: No; Output Drive (IOL/IOH)(Max)(mA): 4/-4; tpd @ Nom Voltage(Max)(ns): 290; DatasheetVersion: SCHS080C; PackageReference: NS0016A; Supplier 1: Mouser; Supplier Part Number 1: 595-CD4527BNSR; Supplier 2: Digi-Key; Supplier Part Number 2: 296-14159-2-ND; Supplier 3: Digi-Key; Supplier Part Number 3: 296-14159-1-ND; Supplier 4: Digi-Key; Supplier Part Number 4: 296-14159-6-ND; Output Type: CMOS; Input Type: CMOS; Operating Temperature Range(C): -55 to 125; ComponentLink1Description: Manufacturer URL; ComponentLink1URL: http://www.ti.com/; ComponentLink2Description: Datasheet; ComponentLink2URL: http://www.ti.com/lit/ds/symlink/cd4527b.pdf
footprint NS0016A_N (SOIC,16-Leads,Body 10.5x5.6mm,Pitch 1.27mm,IPC Medium Density)
footprint NS0016A_M (SOIC,16-Leads,Body 10.5x5.6mm,Pitch 1.27mm,IPC Low Density)
footprint NS0016A_L (SOIC,16-Leads,Body 10.5x5.6mm,Pitch 1.27mm,IPC High Density)
pins: 1 "9"OUT (out), 2 C (in), 3 D (in), 4 SET TO"9" (in), 5 ~{OUT} (out), 6 OUT (out), 7 INHIBIT OUT(CARRY) (out), 8 VSS (power), 9 CLK (in), 10 STROBE (in), 11 INHIBIT IN(CARRY) (in), 12 CASCADE (in), 13 CLEAR (in), 14 A (in), 15 B (in), 16 VDD (power)

## CD4527BPW
designator U?
CMOS BCD Rate Multiplier, PW0016A, TUBE; Generic Part Number: CD4527B; Manufacturer: Texas Instruments; PartNumber: CD4527BPW; VCC(Max)(V): 18; VCC(Min)(V): 3; ICC @ Nom Voltage(Max)(mA): 0.3; Bits(#): 4; F @ Nom Voltage(Max)(Mhz): 8; Rating: Catalog; Technology Family: CD4000; Voltage(Nom)(V): 10; Schmitt Trigger: No; Output Drive (IOL/IOH)(Max)(mA): 4/-4; tpd @ Nom Voltage(Max)(ns): 290; DatasheetVersion: SCHS080C; PackageReference: PW0016A; Supplier 1: Mouser; Supplier Part Number 1: 595-CD4527BPW; Supplier 2: Digi-Key; Supplier Part Number 2: CD4527BPW-ND; Output Type: CMOS; Input Type: CMOS; Operating Temperature Range(C): -55 to 125; ComponentLink1Description: Manufacturer URL; ComponentLink1URL: http://www.ti.com/; ComponentLink2Description: Datasheet; ComponentLink2URL: http://www.ti.com/lit/ds/symlink/cd4527b.pdf
footprint PW0016A_N (SOP, 16-Leads, Body 5.1x4.5mm, Pitch 0.65mm, IPC Medium Density)
footprint PW0016A_M (SOP, 16-Leads, Body 5.1x4.5mm, Pitch 0.65mm, IPC Low Density)
footprint PW0016A_L (SOP, 16-Leads, Body 5.1x4.5mm, Pitch 0.65mm, IPC High Density)
pins: 1 "9"OUT (out), 2 C (in), 3 D (in), 4 SET TO"9" (in), 5 ~{OUT} (out), 6 OUT (out), 7 INHIBIT OUT(CARRY) (out), 8 VSS (power), 9 CLK (in), 10 STROBE (in), 11 INHIBIT IN(CARRY) (in), 12 CASCADE (in), 13 CLEAR (in), 14 A (in), 15 B (in), 16 VDD (power)

## CD4527BPWR
designator U?
CMOS BCD Rate Multiplier, PW0016A, LARGE T&R; Generic Part Number: CD4527B; Manufacturer: Texas Instruments; PartNumber: CD4527BPWR; VCC(Max)(V): 18; VCC(Min)(V): 3; ICC @ Nom Voltage(Max)(mA): 0.3; Bits(#): 4; F @ Nom Voltage(Max)(Mhz): 8; Rating: Catalog; Technology Family: CD4000; Voltage(Nom)(V): 10; Schmitt Trigger: No; Output Drive (IOL/IOH)(Max)(mA): 4/-4; tpd @ Nom Voltage(Max)(ns): 290; DatasheetVersion: SCHS080C; PackageReference: PW0016A; Supplier 1: Mouser; Supplier Part Number 1: 595-CD4527BPWR; Supplier 2: Digi-Key; Supplier Part Number 2: 296-14160-2-ND; Supplier 3: Digi-Key; Supplier Part Number 3: 296-14160-1-ND; Supplier 4: Digi-Key; Supplier Part Number 4: 296-14160-6-ND; Output Type: CMOS; Input Type: CMOS; Operating Temperature Range(C): -55 to 125; ComponentLink1Description: Manufacturer URL; ComponentLink1URL: http://www.ti.com/; ComponentLink2Description: Datasheet; ComponentLink2URL: http://www.ti.com/lit/ds/symlink/cd4527b.pdf
footprint PW0016A_N (SOP, 16-Leads, Body 5.1x4.5mm, Pitch 0.65mm, IPC Medium Density)
footprint PW0016A_M (SOP, 16-Leads, Body 5.1x4.5mm, Pitch 0.65mm, IPC Low Density)
footprint PW0016A_L (SOP, 16-Leads, Body 5.1x4.5mm, Pitch 0.65mm, IPC High Density)
pins: 1 "9"OUT (out), 2 C (in), 3 D (in), 4 SET TO"9" (in), 5 ~{OUT} (out), 6 OUT (out), 7 INHIBIT OUT(CARRY) (out), 8 VSS (power), 9 CLK (in), 10 STROBE (in), 11 INHIBIT IN(CARRY) (in), 12 CASCADE (in), 13 CLEAR (in), 14 A (in), 15 B (in), 16 VDD (power)

## CD4532BE
designator U?
CMOS 8-Bit Priority Encoder, N0016A, TUBE; Generic Part Number: CD4532B; Manufacturer: Texas Instruments; PartNumber: CD4532BE; VCC(Max)(V): 18; VCC(Min)(V): 3; Function: Encoder/Multiplexer; ICC @ Nom Voltage(Max)(mA): 0.3; Bits(#): 8; Configuration: 8：4; Channels(#): 1; Rating: Catalog; Technology Family: CD4000; Voltage(Nom)(V): 5,10,15; Schmitt Trigger: No; Output Drive (IOL/IOH)(Max)(mA): 1.5/-1.5; tpd @ Nom Voltage(Max)(ns): 110; DatasheetVersion: SCHS082C; PackageReference: N0016A; Supplier 1: Mouser; Supplier Part Number 1: 595-CD4532BE; Supplier 2: Digi-Key; Supplier Part Number 2: 296-3533-5-ND; Output Type: CMOS; Input Type: CMOS; F @ Nom Voltage(Max)(Mhz): 8; Operating Temperature Range(C): -55 to 125; Type: Standard; Code_JEDEC: MS-001; ComponentLink1Description: Manufacturer URL; ComponentLink1URL: http://www.ti.com/; ComponentLink2Description: Datasheet; ComponentLink2URL: http://www.ti.com/lit/ds/symlink/cd4532b.pdf; ComponentLink3Description: Package Specification; ComponentLink3URL: http://www.ti.com/lit/ml/mpdi002c/mpdi002c.pdf
footprint N0016A (DIP, 16-Leads, Body 19.7x6.6mm, Pitch 2.54mm)
pins: 1 D4 (in), 2 D5 (in), 3 D6 (in), 4 D7 (in), 5 EI (in), 6 Q2 (out), 7 Q1 (out), 8 VSS (power), 9 Q0 (out), 10 D0 (in), 11 D1 (in), 12 D2 (in), 13 D3 (in), 14 GS (out), 15 EO (out), 16 VDD (power)

## CD4532BF3A
designator U?
CMOS 8-Bit Priority Encoder, J0016A, TUBE; Generic Part Number: CD4532B-MIL; Manufacturer: Texas Instruments; PartNumber: CD4532BF3A; VCC(Max)(V): 18; VCC(Min)(V): 3; ICC @ Nom Voltage(Max)(mA): 0.3; F @ Nom Voltage(Max)(Mhz): 8; Channels(#): 1; Rating: Military; Technology Family: CD4000; Voltage(Nom)(V): 10; Schmitt Trigger: No; Output Drive (IOL/IOH)(Max)(mA): 1.5/-1.5; tpd @ Nom Voltage(Max)(ns): 110; DatasheetVersion: SCHS082C; PackageReference: J0016A; Output Type: CMOS; Input Type: CMOS; Operating Temperature Range(C): -55 to 125; ComponentLink1Description: Manufacturer URL; ComponentLink1URL: http://www.ti.com/; ComponentLink2Description: Datasheet; ComponentLink2URL: http://www.ti.com/lit/ds/symlink/cd4532b-mil.pdf; ComponentLink3Description: Package Specification; ComponentLink3URL: http://www.ti.com/lit/ml/mcer002d/mcer002d.pdf
footprint J0016A (DIP, 16-Leads, Body 21.35x7.2mm, Pitch 2.54mm)
pins: 1 D4 (in), 2 D5 (in), 3 D6 (in), 4 D7 (in), 5 EI (in), 6 Q2 (out), 7 Q1 (out), 8 VSS (power), 9 Q0 (out), 10 D0 (in), 11 D1 (in), 12 D2 (in), 13 D3 (in), 14 GS (out), 15 EO (out), 16 VDD (power)

## CD4532BM
designator U?
CMOS 8-Bit Priority Encoder, D0016A, TUBE; Generic Part Number: CD4532B; Manufacturer: Texas Instruments; PartNumber: CD4532BM; VCC(Max)(V): 18; VCC(Min)(V): 3; Function: Encoder/Multiplexer; ICC @ Nom Voltage(Max)(mA): 0.3; Bits(#): 8; Configuration: 8：4; Channels(#): 1; Rating: Catalog; Technology Family: CD4000; Voltage(Nom)(V): 5,10,15; Schmitt Trigger: No; Output Drive (IOL/IOH)(Max)(mA): 1.5/-1.5; tpd @ Nom Voltage(Max)(ns): 110; DatasheetVersion: SCHS082C; PackageReference: D0016A; Supplier 1: Mouser; Supplier Part Number 1: 595-CD4532BM; Supplier 2: Digi-Key; Supplier Part Number 2: 296-32930-5-ND; Output Type: CMOS; Input Type: CMOS; F @ Nom Voltage(Max)(Mhz): 8; Operating Temperature Range(C): -55 to 125; Type: Standard; Code_JEDEC: MS-012 variation AC; ComponentLink1Description: Manufacturer URL; ComponentLink1URL: http://www.ti.com/; ComponentLink2Description: Datasheet; ComponentLink2URL: http://www.ti.com/lit/ds/symlink/cd4532b.pdf; ComponentLink3Description: Package Specification; ComponentLink3URL: http://www.ti.com/lit/ml/mpds178g/mpds178g.pdf
footprint D0016A_N (SOIC, 16-Leads, Body 10x4mm, Pitch 1.27mm, IPC Medium Density)
footprint D0016A_M (SOIC, 16-Leads, Body 10x4mm, Pitch 1.27mm, IPC Low Density)
footprint D0016A_L (SOIC, 16-Leads, Body 10x4mm, Pitch 1.27mm, IPC High Density)
pins: 1 D4 (in), 2 D5 (in), 3 D6 (in), 4 D7 (in), 5 EI (in), 6 Q2 (out), 7 Q1 (out), 8 VSS (power), 9 Q0 (out), 10 D0 (in), 11 D1 (in), 12 D2 (in), 13 D3 (in), 14 GS (out), 15 EO (out), 16 VDD (power)

## CD4532BM96
designator U?
CMOS 8-Bit Priority Encoder, D0016A, LARGE T&R; Generic Part Number: CD4532B; Manufacturer: Texas Instruments; PartNumber: CD4532BM96; VCC(Max)(V): 18; VCC(Min)(V): 3; Function: Encoder/Multiplexer; ICC @ Nom Voltage(Max)(mA): 0.3; Bits(#): 8; Configuration: 8：4; Channels(#): 1; Rating: Catalog; Technology Family: CD4000; Voltage(Nom)(V): 5,10,15; Schmitt Trigger: No; Output Drive (IOL/IOH)(Max)(mA): 1.5/-1.5; tpd @ Nom Voltage(Max)(ns): 110; DatasheetVersion: SCHS082C; PackageReference: D0016A; Supplier 1: Mouser; Supplier Part Number 1: 595-CD4532BM96; Supplier 2: Digi-Key; Supplier Part Number 2: 296-37331-2-ND; Supplier 3: Digi-Key; Supplier Part Number 3: 296-37331-1-ND; Supplier 4: Digi-Key; Supplier Part Number 4: 296-37331-6-ND; Output Type: CMOS; Input Type: CMOS; F @ Nom Voltage(Max)(Mhz): 8; Operating Temperature Range(C): -55 to 125; Type: Standard; Code_JEDEC: MS-012 variation AC; ComponentLink1Description: Manufacturer URL; ComponentLink1URL: http://www.ti.com/; ComponentLink2Description: Datasheet; ComponentLink2URL: http://www.ti.com/lit/ds/symlink/cd4532b.pdf; ComponentLink3Description: Package Specification; ComponentLink3URL: http://www.ti.com/lit/ml/mpds178g/mpds178g.pdf
footprint D0016A_N (SOIC, 16-Leads, Body 10x4mm, Pitch 1.27mm, IPC Medium Density)
footprint D0016A_M (SOIC, 16-Leads, Body 10x4mm, Pitch 1.27mm, IPC Low Density)
footprint D0016A_L (SOIC, 16-Leads, Body 10x4mm, Pitch 1.27mm, IPC High Density)
pins: 1 D4 (in), 2 D5 (in), 3 D6 (in), 4 D7 (in), 5 EI (in), 6 Q2 (out), 7 Q1 (out), 8 VSS (power), 9 Q0 (out), 10 D0 (in), 11 D1 (in), 12 D2 (in), 13 D3 (in), 14 GS (out), 15 EO (out), 16 VDD (power)

## CD4532BNSR
designator U?
CMOS 8-Bit Priority Encoder, NS0016A, LARGE T&R; Generic Part Number: CD4532B; Manufacturer: Texas Instruments; PartNumber: CD4532BNSR; VCC(Max)(V): 18; VCC(Min)(V): 3; Function: Encoder/Multiplexer; ICC @ Nom Voltage(Max)(mA): 0.3; Bits(#): 8; Configuration: 8：4; Channels(#): 1; Rating: Catalog; Technology Family: CD4000; Voltage(Nom)(V): 5,10,15; Schmitt Trigger: No; Output Drive (IOL/IOH)(Max)(mA): 1.5/-1.5; tpd @ Nom Voltage(Max)(ns): 110; DatasheetVersion: SCHS082C; PackageReference: NS0016A; Supplier 1: Mouser; Supplier Part Number 1: 595-CD4532BNSR; Supplier 2: Digi-Key; Supplier Part Number 2: 296-31535-2-ND; Supplier 3: Digi-Key; Supplier Part Number 3: 296-31535-1-ND; Supplier 4: Digi-Key; Supplier Part Number 4: 296-31535-6-ND; Output Type: CMOS; Input Type: CMOS; F @ Nom Voltage(Max)(Mhz): 8; Operating Temperature Range(C): -55 to 125; Type: Standard; ComponentLink1Description: Manufacturer URL; ComponentLink1URL: http://www.ti.com/; ComponentLink2Description: Datasheet; ComponentLink2URL: http://www.ti.com/lit/ds/symlink/cd4532b.pdf; ComponentLink3Description: Package Specification; ComponentLink3URL: http://www.ti.com/lit/ml/msop002a/msop002a.pdf
footprint NS0016A_N (SOIC,16-Leads,Body 10.5x5.6mm,Pitch 1.27mm,IPC Medium Density)
footprint NS0016A_M (SOIC,16-Leads,Body 10.5x5.6mm,Pitch 1.27mm,IPC Low Density)
footprint NS0016A_L (SOIC,16-Leads,Body 10.5x5.6mm,Pitch 1.27mm,IPC High Density)
pins: 1 D4 (in), 2 D5 (in), 3 D6 (in), 4 D7 (in), 5 EI (in), 6 Q2 (out), 7 Q1 (out), 8 VSS (power), 9 Q0 (out), 10 D0 (in), 11 D1 (in), 12 D2 (in), 13 D3 (in), 14 GS (out), 15 EO (out), 16 VDD (power)

## CD4532BPWR
designator U?
CMOS 8-Bit Priority Encoder, PW0016A, LARGE T&R; Generic Part Number: CD4532B; Manufacturer: Texas Instruments; PartNumber: CD4532BPWR; VCC(Max)(V): 18; VCC(Min)(V): 3; Function: Encoder/Multiplexer; ICC @ Nom Voltage(Max)(mA): 0.3; Bits(#): 8; Configuration: 8：4; Channels(#): 1; Rating: Catalog; Technology Family: CD4000; Voltage(Nom)(V): 5,10,15; Schmitt Trigger: No; Output Drive (IOL/IOH)(Max)(mA): 1.5/-1.5; tpd @ Nom Voltage(Max)(ns): 110; DatasheetVersion: SCHS082C; PackageReference: PW0016A; Supplier 1: Mouser; Supplier Part Number 1: 595-CD4532BPWR; Supplier 2: Digi-Key; Supplier Part Number 2: 296-14161-2-ND; Supplier 3: Digi-Key; Supplier Part Number 3: 296-14161-1-ND; Supplier 4: Digi-Key; Supplier Part Number 4: 296-14161-6-ND; Output Type: CMOS; Input Type: CMOS; F @ Nom Voltage(Max)(Mhz): 8; Operating Temperature Range(C): -55 to 125; Type: Standard; Code_JEDEC: MO-153; ComponentLink1Description: Manufacturer URL; ComponentLink1URL: http://www.ti.com/; ComponentLink2Description: Datasheet; ComponentLink2URL: http://www.ti.com/lit/ds/symlink/cd4532b.pdf; ComponentLink3Description: Package Specification; ComponentLink3URL: http://www.ti.com/lit/ml/mpds361/mpds361.pdf
footprint PW0016A_N (SOP, 16-Leads, Body 5.1x4.5mm, Pitch 0.65mm, IPC Medium Density)
footprint PW0016A_M (SOP, 16-Leads, Body 5.1x4.5mm, Pitch 0.65mm, IPC Low Density)
footprint PW0016A_L (SOP, 16-Leads, Body 5.1x4.5mm, Pitch 0.65mm, IPC High Density)
pins: 1 D4 (in), 2 D5 (in), 3 D6 (in), 4 D7 (in), 5 EI (in), 6 Q2 (out), 7 Q1 (out), 8 VSS (power), 9 Q0 (out), 10 D0 (in), 11 D1 (in), 12 D2 (in), 13 D3 (in), 14 GS (out), 15 EO (out), 16 VDD (power)

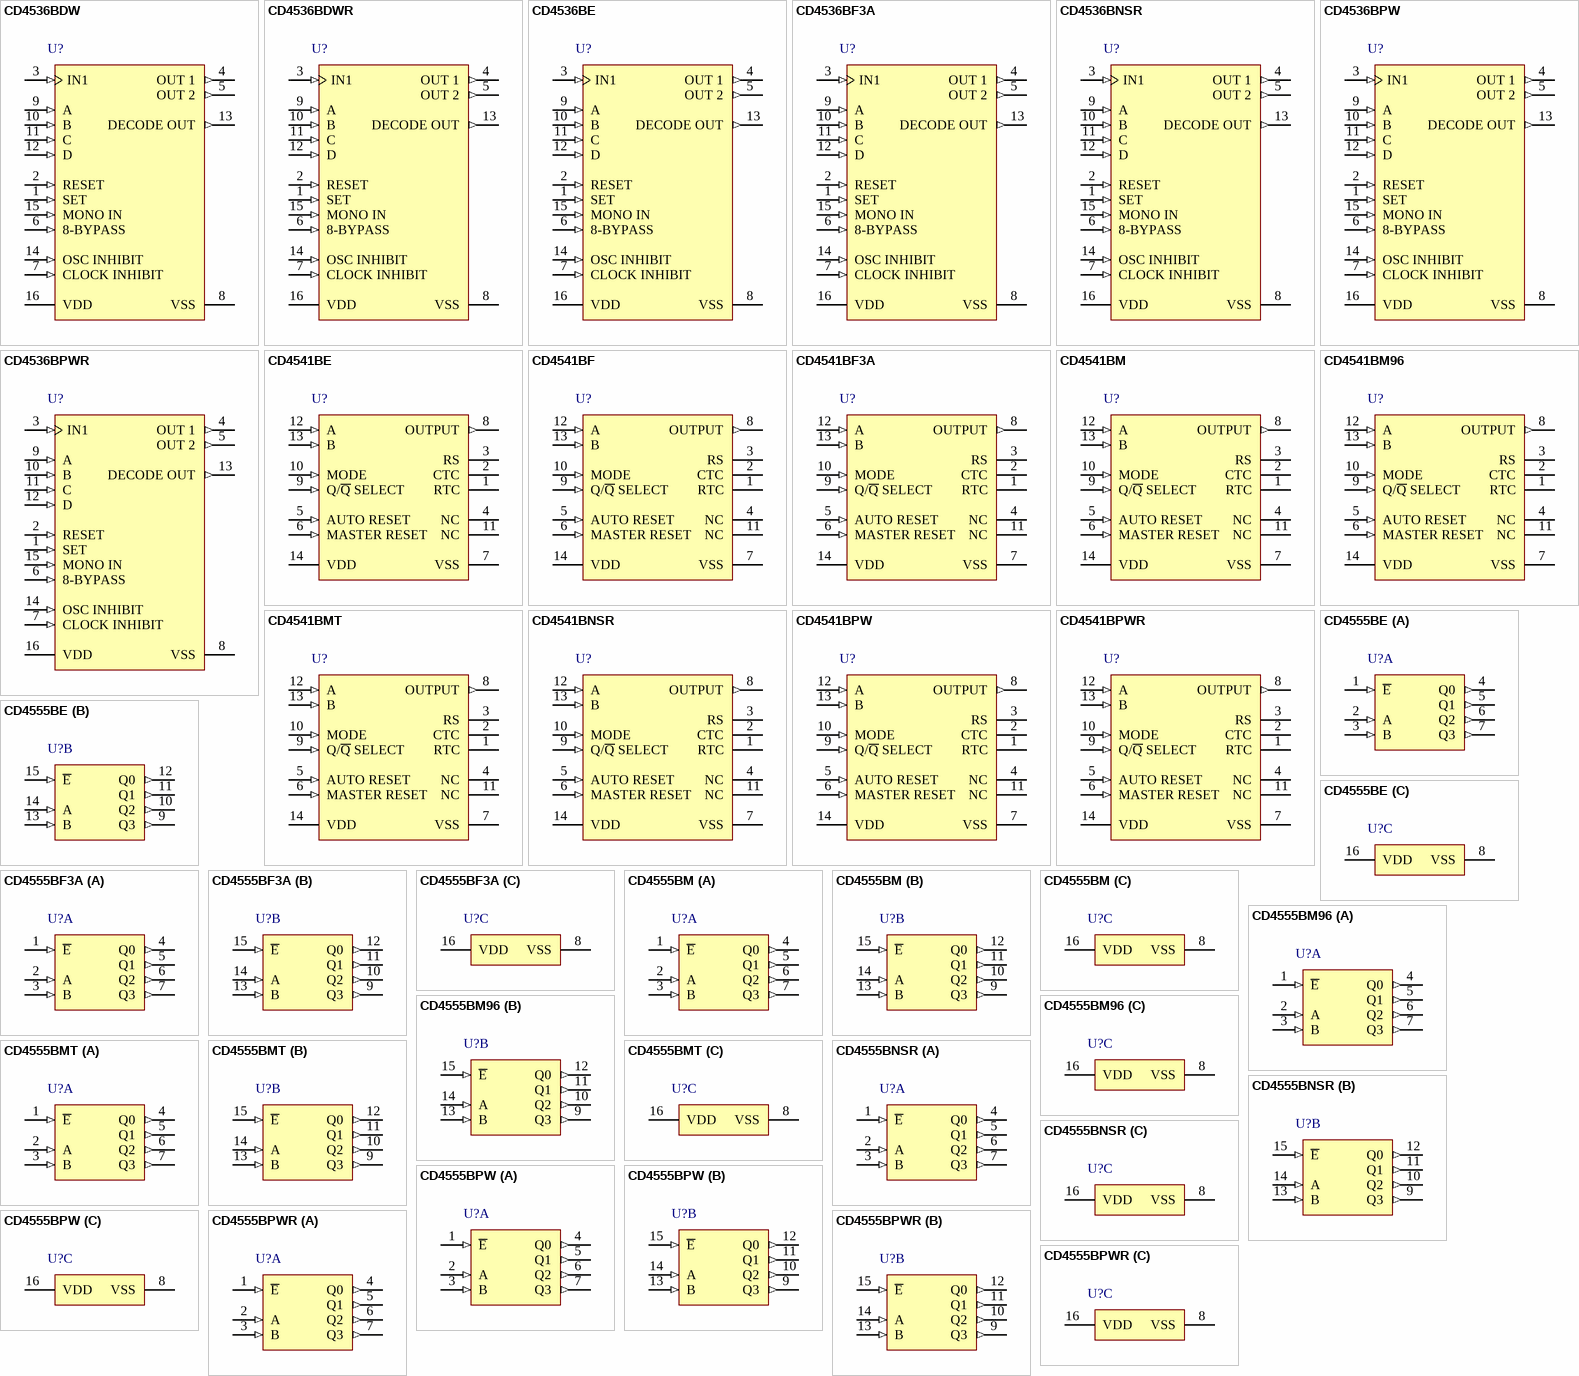
[diagram p31: symbols CD4536BDW to CD4555BPWR]

## CD4536BDW
designator U?
CMOS Programmable Timer, DW0016A, TUBE; Generic Part Number: CD4536B; Manufacturer: Texas Instruments; PartNumber: CD4536BDW; VCC(Max)(V): 18; VCC(Min)(V): 3; ICC @ Nom Voltage(Max)(mA): 0.3; Bits(#): 4; F @ Nom Voltage(Max)(Mhz): 8; Rating: Catalog; Technology Family: CD4000; Voltage(Nom)(V): 10; Schmitt Trigger: No; Output Drive (IOL/IOH)(Max)(mA): 4/-4; tpd @ Nom Voltage(Max)(ns): 3000; DatasheetVersion: SCHS083B; PackageReference: DW0016A; Supplier 1: Mouser; Supplier Part Number 1: 595-CD4536BDW; Supplier 2: Digi-Key; Supplier Part Number 2: 296-32931-5-ND; Output Type: CMOS; Input Type: CMOS; Operating Temperature Range(C): -55 to 125; ComponentLink1Description: Manufacturer URL; ComponentLink1URL: http://www.ti.com/; ComponentLink2Description: Datasheet; ComponentLink2URL: http://www.ti.com/lit/ds/symlink/cd4536b.pdf
footprint DW0016A_N (SOIC, 16-Leads, Body 10.5x7.6mm, Pitch 1.27mm, IPC Medium Density)
footprint DW0016A_M (SOIC, 16-Leads, Body 10.5x7.6mm, Pitch 1.27mm, IPC Low Density)
footprint DW0016A_L (SOIC, 16-Leads, Body 10.5x7.6mm, Pitch 1.27mm, IPC High Density)
pins: 1 SET (in), 2 RESET (in), 3 IN1 (in), 4 OUT 1 (out), 5 OUT 2 (out), 6 8-BYPASS (in), 7 CLOCK INHIBIT (in), 8 VSS (power), 9 A (in), 10 B (in), 11 C (in), 12 D (in), 13 DECODE OUT (out), 14 OSC INHIBIT (in), 15 MONO IN (in), 16 VDD (power)